# EAGLE library part POWERLINE_SIGNAL_COUPLER (library Traficon)
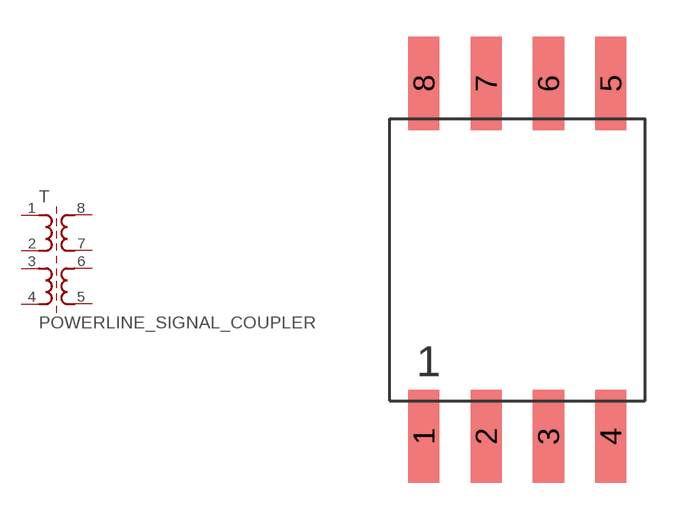
[diagram p135: symbol with the pads of PLC-TRAFO; footprint PLC-TRAFO]

Designator prefix T

## POWERLINE_SIGNAL_COUPLER  [PLC-TRAFO]
1  1  pas
2  2  pas
3  3  pas
4  4  pas
5  5  pas
6  6  pas
7  7  pas
8  8  pas

## Footprint PLC-TRAFO (pad centres in mm)
CT (04/03/2008): changed pin names from P$n to n
smd 1.27 x 3.8: 1 -3.81,-7.2; 2 -1.27,-7.2; 3 1.27,-7.2; 4 3.81,-7.2; 5 3.81,7.2; 6 1.27,7.2; 7 -1.27,7.2; 8 -3.81,7.2